# Altium footprint library QUTMS_RadioLibrary.PcbLib: 3 footprints
Each footprint in its own frame and in the unit in brackets; x right, y up, seen from the top. Pads: shape width x height; smd on the part's side, far side on the other; paste and mask are expansions set on the pad; w line width, h text height; cw(c..) or ccw(c..) is an arc to the next point about the centre after c.
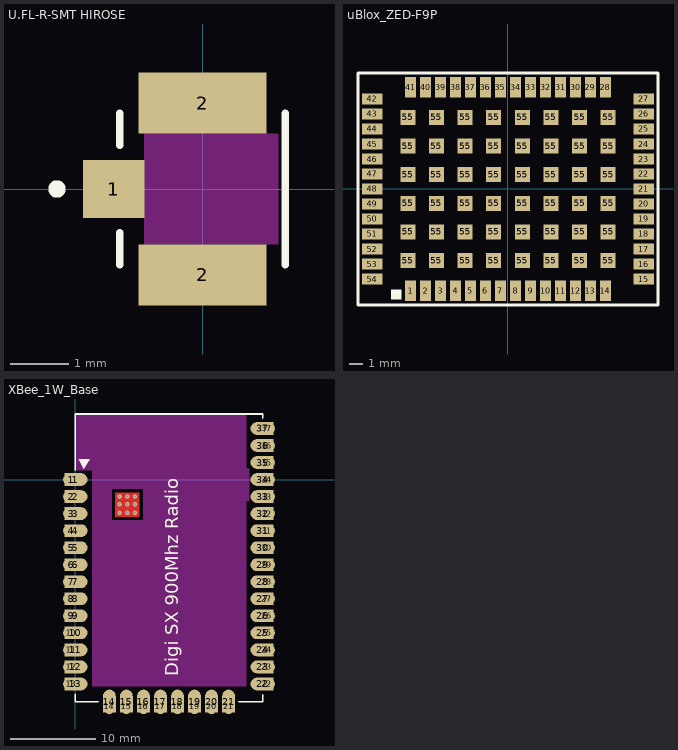
[diagram p0: the footprints below, top view; thin cyan lines are the x and y axes]

## U.FL-R-SMT HIROSE [mm]
pads (3):
  rect 1.05x1 smd: 1(-1.525,0)
  rect 2.2x1.05 smd: 2(0,-1.475) 2(0,1.475)
Top Overlay:
  circle w0.15: c-2.5,0 r0.075
  lines w0.127: -1.42,-1.3 -1.42,-0.75 ; -1.42,0.75 -1.42,1.3 ; 1.42,-1.3 1.42,1.3
Keep-Out Layer:
  region: 1.3,-0.95 -1,-0.95 -1,0.95 1.3,0.95
3D body "U.FL-R-SMT(10)--3DModel-STEP-56544.STEP": height 1.25, standoff 0, extent -1.55,-1.5 1.55,1.5

## uBlox_ZED-F9P [mm]
pads (102):
  rect 0.8x1.5 smd: 1(-7.15,-7.45) 2(-6.05,-7.45) 3(-4.95,-7.45) 4(-3.85,-7.45) 5(-2.75,-7.45) 6(-1.65,-7.45) 7(-0.55,-7.45) 8(0.55,-7.45) 9(1.65,-7.45) 10(2.75,-7.45) 11(3.85,-7.45) 12(4.95,-7.45) 13(6.05,-7.45) 14(7.15,-7.45) 28(7.15,7.45) 29(6.05,7.45) 30(4.95,7.45) 31(3.85,7.45) 32(2.75,7.45) 33(1.65,7.45) 34(0.55,7.45) 35(-0.55,7.45) 36(-1.65,7.45) 37(-2.75,7.45) 38(-3.85,7.45) 39(-4.95,7.45) 40(-6.05,7.45) 41(-7.15,7.45)
  rect 1.5x0.8 smd: 15(9.95,-6.6) 16(9.95,-5.5) 17(9.95,-4.4) 18(9.95,-3.3) 19(9.95,-2.2) 20(9.95,-1.1) 21(9.95,0) 22(9.95,1.1) 23(9.95,2.2) 24(9.95,3.3) 25(9.95,4.4) 26(9.95,5.5) 27(9.95,6.6) 42(-9.95,6.6) 43(-9.95,5.5) 44(-9.95,4.4) 45(-9.95,3.3) 46(-9.95,2.2) 47(-9.95,1.1) 48(-9.95,0) 49(-9.95,-1.1) 50(-9.95,-2.2) 51(-9.95,-3.3) 52(-9.95,-4.4) 53(-9.95,-5.5) 54(-9.95,-6.6)
  rect 1.1x1.1 smd: 55(-7.35,-5.25) 55(-7.35,-3.15) 55(-7.35,-1.05) 55(-7.35,1.05) 55(-7.35,3.15) 55(-7.35,5.25) 55(-5.25,-5.25) 55(-5.25,-3.15) 55(-5.25,-1.05) 55(-5.25,1.05) 55(-5.25,3.15) 55(-5.25,5.25) 55(-3.15,-5.25) 55(-3.15,-3.15) 55(-3.15,-1.05) 55(-3.15,1.05) 55(-3.15,3.15) 55(-3.15,5.25) 55(-1.05,-5.25) 55(-1.05,-3.15) 55(-1.05,-1.05) 55(-1.05,1.05) 55(-1.05,3.15) 55(-1.05,5.25) 55(1.05,-5.25) 55(1.05,-3.15) 55(1.05,-1.05) 55(1.05,1.05) 55(1.05,3.15) 55(1.05,5.25) 55(3.15,-5.25) 55(3.15,-3.15) 55(3.15,-1.05) 55(3.15,1.05) 55(3.15,3.15) 55(3.15,5.25) 55(5.25,-5.25) 55(5.25,-3.15) 55(5.25,-1.05) 55(5.25,1.05) 55(5.25,3.15) 55(5.25,5.25) 55(7.35,-5.25) 55(7.35,-3.15) 55(7.35,-1.05) 55(7.35,1.05) 55(7.35,3.15) 55(7.35,5.25)
Top Overlay:
  rectangle: -8.587,-8.119 -7.825,-7.357
  lines w0.2: -11,-8.5 -11,8.5 11,8.5 11,-8.5 -11,-8.5
3D body: height 2.3, standoff 0.08, extent -9.603,-7.039 9.447,6.994
3D body "u-blox ZED-F9P.stp": height 2.2, standoff -0.04, extent -11,-8.5 11,8.5

## XBee_1W_Base [mm]
pads (84):
  rect 1.5x1.5 smd: 1(-0.508,0) 2(-0.508,-2) 3(-0.508,-4) 4(-0.508,-6) 5(-0.508,-8) 6(-0.508,-10) 7(-0.508,-12) 8(-0.508,-14) 9(-0.508,-16) 10(-0.508,-18) 11(-0.508,-20) 12(-0.508,-22) 13(-0.508,-24) 14(3.998,-26.608) 15(5.998,-26.608) 16(7.998,-26.608) 17(9.998,-26.608) 18(11.998,-26.608) 19(13.998,-26.608) 20(15.998,-26.608) 21(17.998,-26.608) 22(22.508,-24) 23(22.508,-22) 24(22.508,-20) 25(22.508,-18) 26(22.508,-16) 27(22.508,-14) 28(22.508,-12) 29(22.508,-10) 30(22.508,-8) 31(22.508,-6) 32(22.508,-4) 33(22.508,-2) 34(22.508,0) 35(22.508,2) 36(22.508,4) 37(22.5,6)
  oval 2.86x1.5 smd: 1(0,0) 2(0,-2) 3(0,-4) 4(0,-6) 5(0,-8) 6(0,-10) 7(0,-12) 8(0,-14) 9(0,-16) 10(0,-18) 11(0,-20) 12(0,-22) 13(0,-24) 22(22,-24) 23(22,-22) 24(22,-20) 25(22,-18) 26(22,-16) 27(22,-14) 28(22,-12) 29(22,-10) 30(22,-8) 31(22,-6) 32(22,-4) 33(22,-2) 34(22,0) 35(22,2) 36(22,4) 37(22,6)
  oval 1.5x2.86 smd: 14(3.998,-26.1) 15(5.998,-26.1) 16(7.998,-26.1) 17(9.998,-26.1) 18(11.998,-26.1) 19(13.998,-26.1) 20(15.998,-26.1) 21(17.998,-26.1)
  round 0.508 hole 0.254: 38(5.2,-3.9) 38(5.2,-2.9) 38(5.2,-2) 38(6.1,-3.9) 38(6.1,-2.9) 38(6.1,-2) 38(7,-3.9) 38(7,-2.9) 38(7,-2)
  round 0.2 smd: 38(6.2,-2.9)
Top Layer:
  region: 4.699,-4.369 7.493,-4.369 7.493,-1.575 4.699,-1.575
Top Layer keep-out:
  region: 0,7.7 20.1,7.7 20.1,-24.3 2,-24.3 2,-4.8 8,-4.8 8,-1.1 2,-1.1 2,1.1 0,1.1
  region: 2,0 2,-5.6 4.3,-5.6 4.3,0
Mid-Layer 1 keep-out:
  region: 20.422,1.295 20.422,-2.362 14.122,-2.362 14.097,-2.337 14.122,-2.311 14.122,1.295
Mid-Layer 2 keep-out:
  region: 20.422,1.295 20.422,-2.362 14.122,-2.362 14.097,-2.337 14.122,-2.311 14.122,1.295
Top Overlay:
  region: 1.696,2.362 0.396,2.362 0.996,1.262
  lines w0.2: 0,-25.2 0,-26.086 2.7,-26.086 ; 0,1.1 0,7.696 21.996,7.696 21.996,7.2 ; 19.2,-26.086 21.996,-26.086 21.996,-25.3
  text "Digi SX 900Mhz Radio" at 12.091,-23.114 h1.52
Top Paste:
  region: 4.699,-4.369 7.493,-4.369 7.493,-1.575 4.699,-1.575
  region: 4.953,-2.792 5.843,-2.792 5.843,-1.778 4.953,-1.778
  region: 6.351,-2.792 7.239,-2.792 7.239,-1.778 6.351,-1.778
  region: 4.953,-4.191 5.843,-4.191 5.843,-3.175 4.953,-3.175
  region: 6.351,-4.191 7.239,-4.191 7.239,-3.175 6.351,-3.175
Top Solder:
  region: 4.699,-4.369 7.493,-4.369 7.493,-1.575 4.699,-1.575
Bottom Solder:
  region: 2.6,-6.4 9.5,-6.4 9.5,-4.4 4.652,-4.4 4.652,-1.525 7.548,-1.525 7.548,-3.429 9.5,-3.429 9.5,0.4 2.6,0.4
  region: 7.548,-6.286 9.5,-6.286 9.5,-0.521 7.548,-0.521
Keep-Out Layer:
  region: 13.75,1.27 13.75,-2.515 20.396,-2.515 20.396,1.27
3D body "Xbee SX v3.step": height 1.85, standoff 0, extent -0.102,-26.111 21.996,7.671